# EAGLE library part ATSAMD21E (library CustomParts)
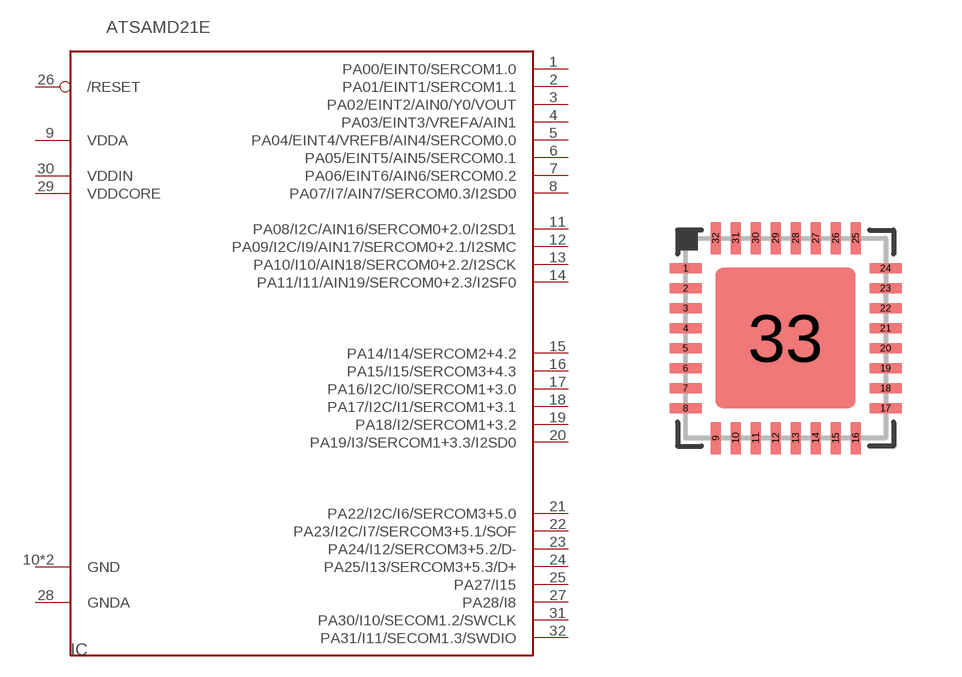
[diagram p7: symbol with the pads of QFN32_5MM; footprint QFN32_5MM]

Designator prefix IC

## ATSAMD21E  [QFN32_5MM]
1  PA00/EINT0/SERCOM1.0
2  PA01/EINT1/SERCOM1.1
3  PA02/EINT2/AIN0/Y0/VOUT
4  PA03/EINT3/VREFA/AIN1
5  PA04/EINT4/VREFB/AIN4/SERCOM0.0
6  PA05/EINT5/AIN5/SERCOM0.1
7  PA06/EINT6/AIN6/SERCOM0.2
8  PA07/I7/AIN7/SERCOM0.3/I2SD0
9  VDDA  pwr
10  GND  pwr
11  PA08/I2C/AIN16/SERCOM0+2.0/I2SD1
12  PA09/I2C/I9/AIN17/SERCOM0+2.1/I2SMC
13  PA10/I10/AIN18/SERCOM0+2.2/I2SCK
14  PA11/I11/AIN19/SERCOM0+2.3/I2SF0
15  PA14/I14/SERCOM2+4.2
16  PA15/I15/SERCOM3+4.3
17  PA16/I2C/I0/SERCOM1+3.0
18  PA17/I2C/I1/SERCOM1+3.1
19  PA18/I2/SERCOM1+3.2
20  PA19/I3/SERCOM1+3.3/I2SD0
21  PA22/I2C/I6/SERCOM3+5.0
22  PA23/I2C/I7/SERCOM3+5.1/SOF
23  PA24/I12/SERCOM3+5.2/D-
24  PA25/I13/SERCOM3+5.3/D+
25  PA27/I15
26  /RESET
27  PA28/I8
28  GNDA  pwr
29  VDDCORE  pwr
30  VDDIN  pwr
31  PA30/I10/SECOM1.2/SWCLK
32  PA31/I11/SECOM1.3/SWDIO
33  GND  pwr

## Footprint QFN32_5MM (pad centres in mm)
QFN32 5x5mm 0.5mm pitch Source: Nordic nRF8001 Product Specification
smd 0.8 x 0.25: 1 -2.5,1.75; 2 -2.5,1.25; 3 -2.5,0.75; 4 -2.5,0.25; 5 -2.5,-0.25; 6 -2.5,-0.75; 7 -2.5,-1.25; 8 -2.5,-1.75; 17 2.5,-1.75; 18 2.5,-1.25; 19 2.5,-0.75; 20 2.5,-0.25; 21 2.5,0.25; 22 2.5,0.75; 23 2.5,1.25; 24 2.5,1.75
smd 0.25 x 0.8: 9 -1.75,-2.5; 10 -1.25,-2.5; 11 -0.75,-2.5; 12 -0.25,-2.5; 13 0.25,-2.5; 14 0.75,-2.5; 15 1.25,-2.5; 16 1.75,-2.5; 25 1.75,2.5; 26 1.25,2.5; 27 0.75,2.5; 28 0.25,2.5; 29 -0.25,2.5; 30 -0.75,2.5; 31 -1.25,2.5; 32 -1.75,2.5
smd 3.5 x 3.5: 33 0,0